# Altium footprint library Cosmos.PcbLib: 23 footprints (part 1 of 2)
Each footprint in its own frame and in the unit in brackets; x right, y up, seen from the top. Pads: shape width x height; smd on the part's side, far side on the other; paste and mask are expansions set on the pad; w line width, h text height; cw(c..) or ccw(c..) is an arc to the next point about the centre after c.
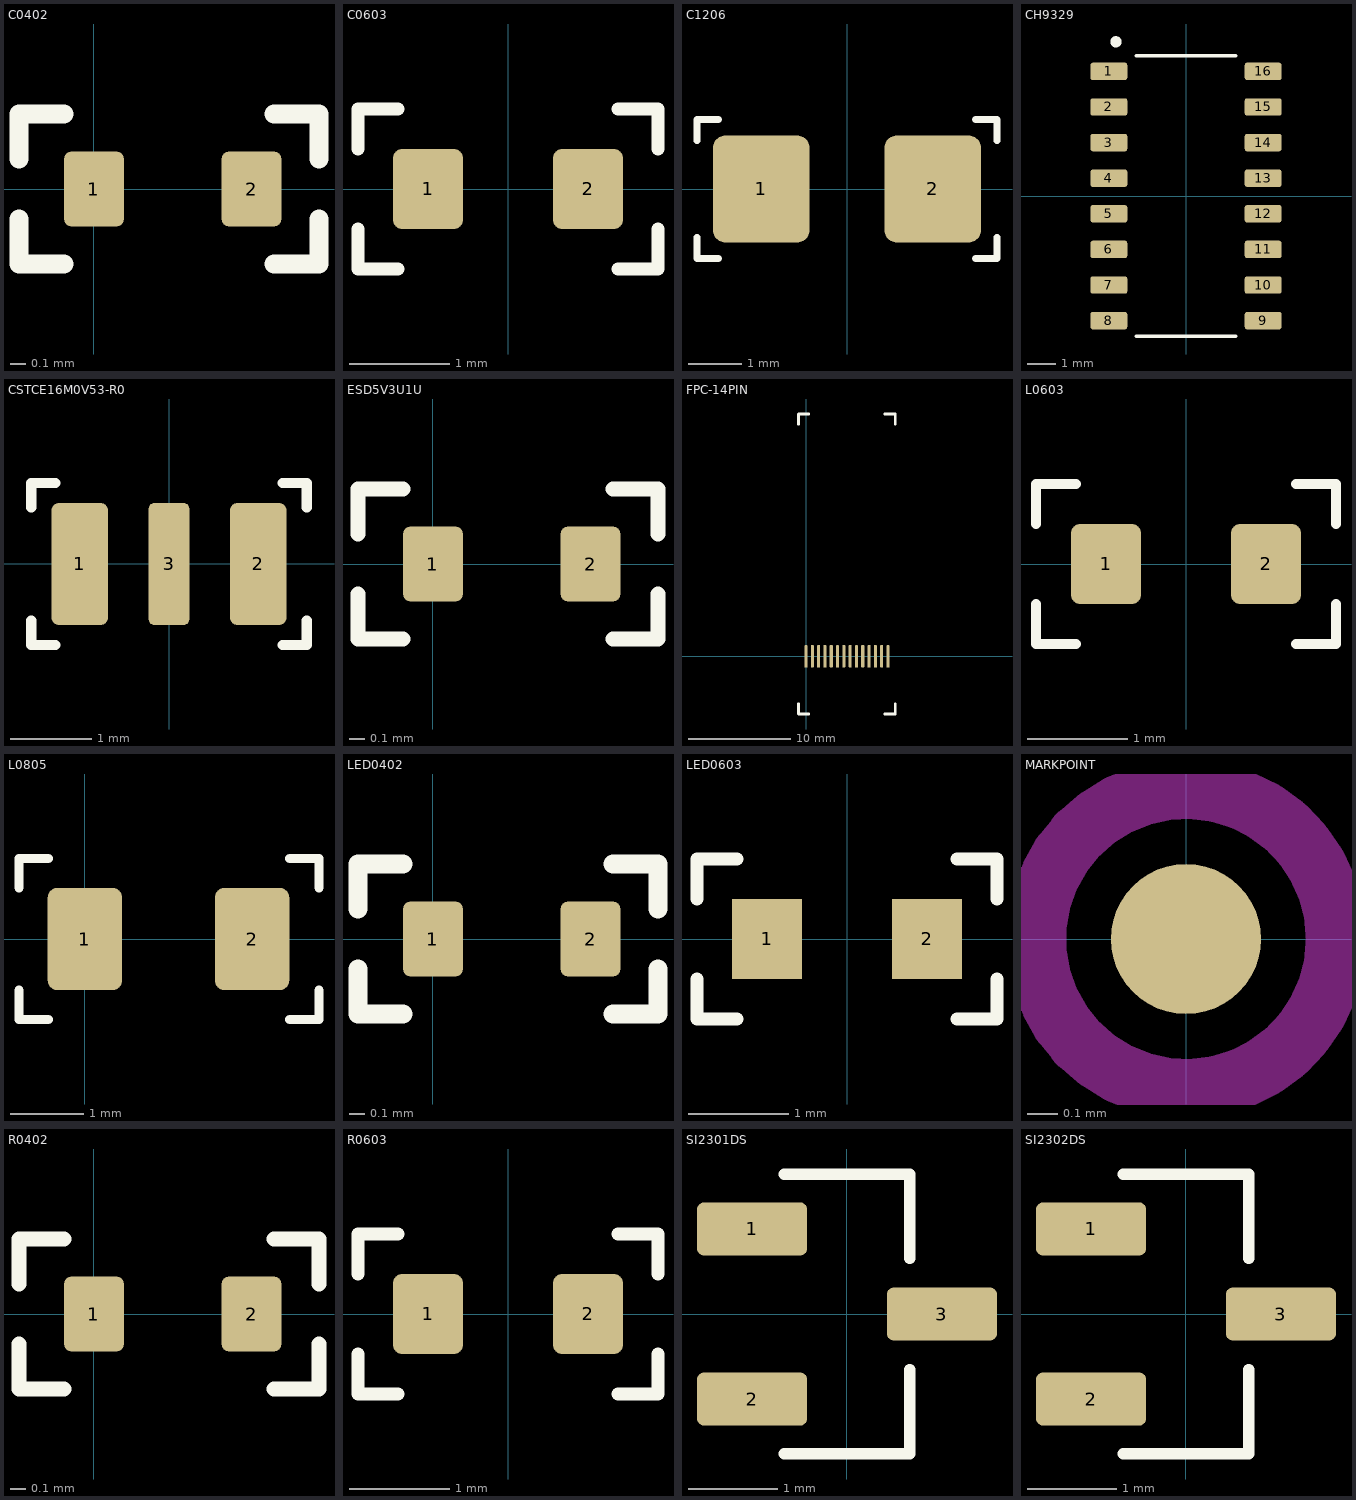
[diagram p0: the footprints below, top view; thin cyan lines are the x and y axes]

## C0402 [mm]
pads (2):
  rrect25% 0.4x0.5 smd: 1(0,0) 2(1.05,0)
Top Overlay:
  lines w0.127: -0.5,-0.2 -0.5,-0.5 -0.2,-0.5 ; -0.5,0.2 -0.5,0.5 -0.2,0.5 ; 1.2,-0.5 1.5,-0.5 1.5,-0.2 ; 1.2,0.5 1.5,0.5 1.5,0.2
3D body "C 0402.STEP": height 0.53, standoff 0.01, extent 0.025,-0.26 1.025,0.26

## C0603 [mm]
pads (2):
  rrect25% 0.7x0.8 smd: 1(-0.8,0) 2(0.8,0)
Top Overlay:
  lines w0.127: -1.5,-0.4 -1.5,-0.8 -1.1,-0.8 ; -1.5,0.4 -1.5,0.8 -1.1,0.8 ; 1.1,-0.8 1.5,-0.8 1.5,-0.4 ; 1.1,0.8 1.5,0.8 1.5,0.4
3D body "C 0603.STEP": height 0.81, standoff -0.01, extent -0.8,-0.41 0.8,0.41

## C1206 [mm]
pads (2):
  rrect25% 1.8x2 smd: 1(-1.6,0) 2(1.6,0)
Top Overlay:
  lines w0.127: -2.8,-0.9 -2.8,-1.3 -2.4,-1.3 ; -2.8,0.9 -2.8,1.3 -2.4,1.3 ; 2.4,-1.3 2.8,-1.3 2.8,-0.9 ; 2.4,1.3 2.8,1.3 2.8,0.9
3D body: height 1.2, standoff 0, extent -1.6,-0.8 1.6,0.8

## CH9329 [mm]
pads (16):
  rrect25% 1.31x0.62 smd: 1(-2.75,4.445) 2(-2.75,3.175) 3(-2.75,1.905) 4(-2.75,0.635) 5(-2.75,-0.635) 6(-2.75,-1.905) 7(-2.75,-3.175) 8(-2.75,-4.445) 9(2.75,-4.445) 10(2.75,-3.175) 11(2.75,-1.905) 12(2.75,-0.635) 13(2.75,0.635) 14(2.75,1.905) 15(2.75,3.175) 16(2.75,4.445)
Top Overlay:
  circle w0.2: c-2.5,5.5 r0.1
  lines w0.127: -1.775,-5 1.775,-5 ; -1.775,5 1.775,5
3D body "CH9329--3DModel-STEP-56544.STEP": height 1.8, standoff 0, extent -3,-5 3,5

## CSTCE16M0V53-R0 [mm] "3215 Crystal 16Mhz"
pads (3):
  rrect25% 0.7x1.5 smd: 1(-1.1,0) 2(1.1,0)
  rrect25% 0.5x1.5 smd: 3(0,0)
Top Overlay:
  lines w0.127: -1.7,-0.7 -1.7,-1 -1.4,-1 ; -1.7,0.7 -1.7,1 -1.4,1 ; 1.4,-1 1.7,-1 1.7,-0.7 ; 1.4,1 1.7,1 1.7,0.7
3D body "OSC 3215-2.STEP": height 0.61, standoff -0.01, extent -1.6,-0.75 1.6,0.75

## ESD5V3U1U [mm]
pads (2):
  rrect25% 0.4x0.5 smd: 1(0,0) 2(1.05,0)
Top Overlay:
  lines w0.1: -0.5,-0.2 -0.5,-0.5 -0.2,-0.5 ; -0.5,0.2 -0.5,0.5 -0.2,0.5 ; 1.2,-0.5 1.5,-0.5 1.5,-0.2 ; 1.2,0.5 1.5,0.5 1.5,0.2
3D body "SOD-723.STEP": height 0.53, standoff 0.03, extent -0.175,-0.3 1.225,0.3

## FPC-14PIN [mm]
pads (14):
  rrect50% 0.3x2.2 smd: 1(0,0) 2(0.62,0) 3(1.24,0) 4(1.86,0) 5(2.48,0) 6(3.1,0) 7(3.72,0) 8(4.34,0) 9(4.96,0) 10(5.58,0) 11(6.2,0) 12(6.82,0) 13(7.44,0) 14(8.06,0)
Top Overlay:
  lines w0.254: -0.74,-4.67 -0.74,-5.67 0.26,-5.67 ; -0.74,22.83 -0.74,23.83 0.26,23.83 ; 7.76,-5.67 8.76,-5.67 8.76,-4.67 ; 7.76,23.83 8.76,23.83 8.76,22.83
3D body: height 2.2, standoff 0.2, extent -0.24,-5.22 8.26,23.28

## L0603 [mm]
pads (2):
  rrect25% 0.7x0.8 smd: 1(-0.8,0) 2(0.8,0)
Top Overlay:
  lines w0.1: -1.5,-0.4 -1.5,-0.8 -1.1,-0.8 ; -1.5,0.4 -1.5,0.8 -1.1,0.8 ; 1.1,-0.8 1.5,-0.8 1.5,-0.4 ; 1.1,0.8 1.5,0.8 1.5,0.4
3D body "0603.STEP": height 0.8, standoff 0, extent -0.823,-0.4 0.777,0.4

## L0805 [mil]
pads (2):
  rrect25% 40x55 smd: 1(0,0) 2(90,0)
Top Overlay:
  lines w5: -35.43,-27.56 -35.43,-43.31 -19.68,-43.31 ; -35.43,27.56 -35.43,43.31 -19.69,43.31 ; 110.24,-43.31 125.98,-43.31 125.98,-27.56 ; 110.24,43.31 125.98,43.31 125.98,27.56
3D body "0805.STEP": height 35.43, standoff -0.11, extent 5.63,-23.62 84.37,23.62

## LED0402 [mm]
pads (2):
  rrect25% 0.4x0.5 smd: 1(0,0) 2(1.05,0)
Top Overlay:
  lines w0.127: -0.5,-0.2 -0.5,-0.5 -0.2,-0.5 ; -0.5,0.2 -0.5,0.5 -0.2,0.5 ; 1.2,-0.5 1.5,-0.5 1.5,-0.2 ; 1.2,0.5 1.5,0.5 1.5,0.2
3D body "LED0402.STEP": height 0.4, standoff -0.02, extent 0.004,-0.275 1.046,0.265

## LED0603 [mm]
pads (2):
  rect 0.7x0.8 smd: 1(-0.8,0) 2(0.8,0)
Top Overlay:
  lines w0.127: -1.5,-0.4 -1.5,-0.8 -1.1,-0.8 ; -1.5,0.4 -1.5,0.8 -1.1,0.8 ; 1.1,-0.8 1.5,-0.8 1.5,-0.4 ; 1.1,0.8 1.5,0.8 1.5,0.4
3D body: height 1, standoff 0, extent -0.8,-0.4 0.8,0.4

## MARKPOINT [mm] "mark point"
pads (1):
  round 0.5 smd: ""(0,0)
Top Layer keep-out:
  circle w0.2: c0,0 r0.5

## R0402 [mm]
pads (2):
  rrect25% 0.4x0.5 smd: 1(0,0) 2(1.05,0)
Top Overlay:
  lines w0.1: -0.5,-0.2 -0.5,-0.5 -0.2,-0.5 ; -0.5,0.2 -0.5,0.5 -0.2,0.5 ; 1.2,-0.5 1.5,-0.5 1.5,-0.2 ; 1.2,0.5 1.5,0.5 1.5,0.2
3D body "R 0402.STEP": height 0.3, standoff 0, extent 0,-0.25 1,0.25

## R0603 [mm]
pads (2):
  rrect25% 0.7x0.8 smd: 1(-0.8,0) 2(0.8,0)
Top Overlay:
  lines w0.127: -1.5,-0.4 -1.5,-0.8 -1.1,-0.8 ; -1.5,0.4 -1.5,0.8 -1.1,0.8 ; 1.1,-0.8 1.5,-0.8 1.5,-0.4 ; 1.1,0.8 1.5,0.8 1.5,0.4
3D body "R 0603.STEP": height 0.4, standoff 0, extent -0.8,-0.4 0.8,0.4

## SI2301DS [mm]
pads (3):
  rrect25% 1.23x0.59 smd: 1(-1.06,0.95) 2(-1.06,-0.95) 3(1.06,0)
Top Overlay:
  lines w0.127: -0.7,-1.56 0.7,-1.56 0.7,-0.62 ; -0.7,1.56 0.7,1.56 0.7,0.62
3D body "SOT23_3.STEP": height 1.45, standoff 0, extent -1.4,-1.45 1.4,1.45

## SI2302DS [mm]
pads (3):
  rrect25% 1.23x0.59 smd: 1(-1.06,0.95) 2(-1.06,-0.95) 3(1.06,0)
Top Overlay:
  lines w0.127: -0.7,-1.56 0.7,-1.56 0.7,-0.62 ; -0.7,1.56 0.7,1.56 0.7,0.62
3D body "SOT23_3.STEP": height 1.45, standoff 0, extent -1.4,-1.45 1.4,1.45